# EAGLE library part IC4093 (library chuong)
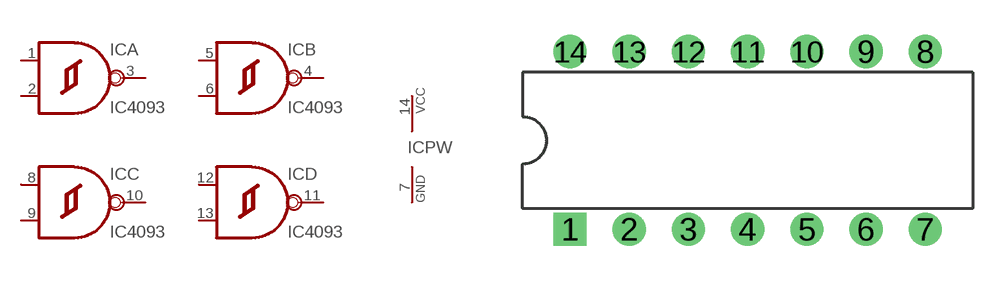
[diagram p68: symbol with the pads of DIL-14; footprint DIL-14]

Designator prefix IC; gates A=IC4093 B=IC4093 C=IC4093 D=IC4093 PW=POWER

## IC4093  [DIL-14]
1  A:I0  in
2  A:I1  in
3  A:O1  out
4  B:O1  out
5  B:I0  in
6  B:I1  in
7  PW:GND  pwr
8  C:I0  in
9  C:I1  in
10  C:O1  out
11  D:O1  out
12  D:I0  in
13  D:I1  in
14  PW:VCC  pwr

## Footprint DIL-14 (pad centres in mm)
drill 0.61 pad 1.422 square: 1 -7.62,-3.81
drill 0.61 pad 1.422 round: 2 -5.08,-3.81; 3 -2.54,-3.81; 4 0,-3.81; 5 2.54,-3.81; 6 5.08,-3.81; 7 7.62,-3.81; 8 7.62,3.81; 9 5.08,3.81; 10 2.54,3.81; 11 0,3.81; 12 -2.54,3.81; 13 -5.08,3.81; 14 -7.62,3.81